# EAGLE library part IV-9 (library bodger)
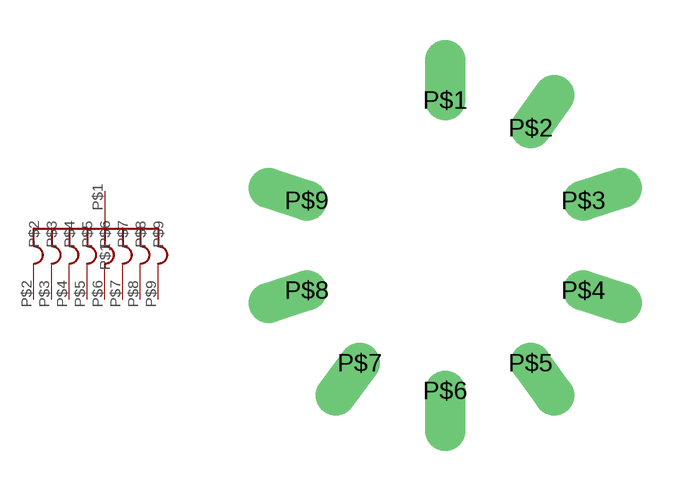
[diagram p16: symbol with the pads of IV-9; footprint IV-9]

Designator prefix -

## IV-9  [IV-9]
P$1  P$1
P$2  P$2
P$3  P$3
P$4  P$4
P$5  P$5
P$6  P$6
P$7  P$7
P$8  P$8
P$9  P$9

## Footprint IV-9 (pad centres in mm)
drill 0.5 pad 0.61 offset: P$1 0,3.635; P$2 2.137,2.941; P$3 3.457,1.123; P$4 3.457,-1.123; P$5 2.137,-2.941; P$6 0,-3.635; P$7 -2.137,-2.941; P$8 -3.457,-1.123; P$9 -3.457,1.123